# EAGLE library part PROGRAM_HEADER_DEV (library Blizzard_Library)
2 x 3 - 6 Pin 0.50" pin header, used for programming ESP32 PN: S9015E-03-ND
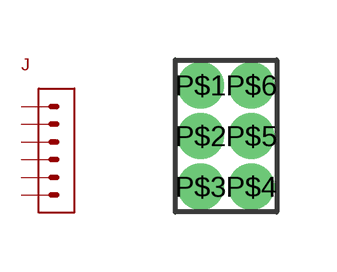
[diagram p17: symbol with the pads of 6_PIN_050_HEADER_PKG; footprint 6_PIN_050_HEADER_PKG]

Designator prefix J

## PROGRAM_HEADER_DEV  [6_PIN_050_HEADER_PKG]
P$1  2
P$2  3
P$3  4
P$4  5
P$5  6
P$6  1

## Footprint 6_PIN_050_HEADER_PKG (pad centres in mm)
3 x 2 0.50" pin header
drill 0.65 pad 1: P$1 -0.635,1.27; P$2 -0.635,0; P$3 -0.635,-1.27; P$4 0.635,-1.27; P$5 0.635,0; P$6 0.635,1.27